# Altium footprint library PcbLib1.PcbLib: 27 footprints (part 2 of 2)
Each footprint in its own frame and in the unit in brackets; x right, y up, seen from the top. Pads: shape width x height; smd on the part's side, far side on the other; paste and mask are expansions set on the pad; w line width, h text height; cw(c..) or ccw(c..) is an arc to the next point about the centre after c.
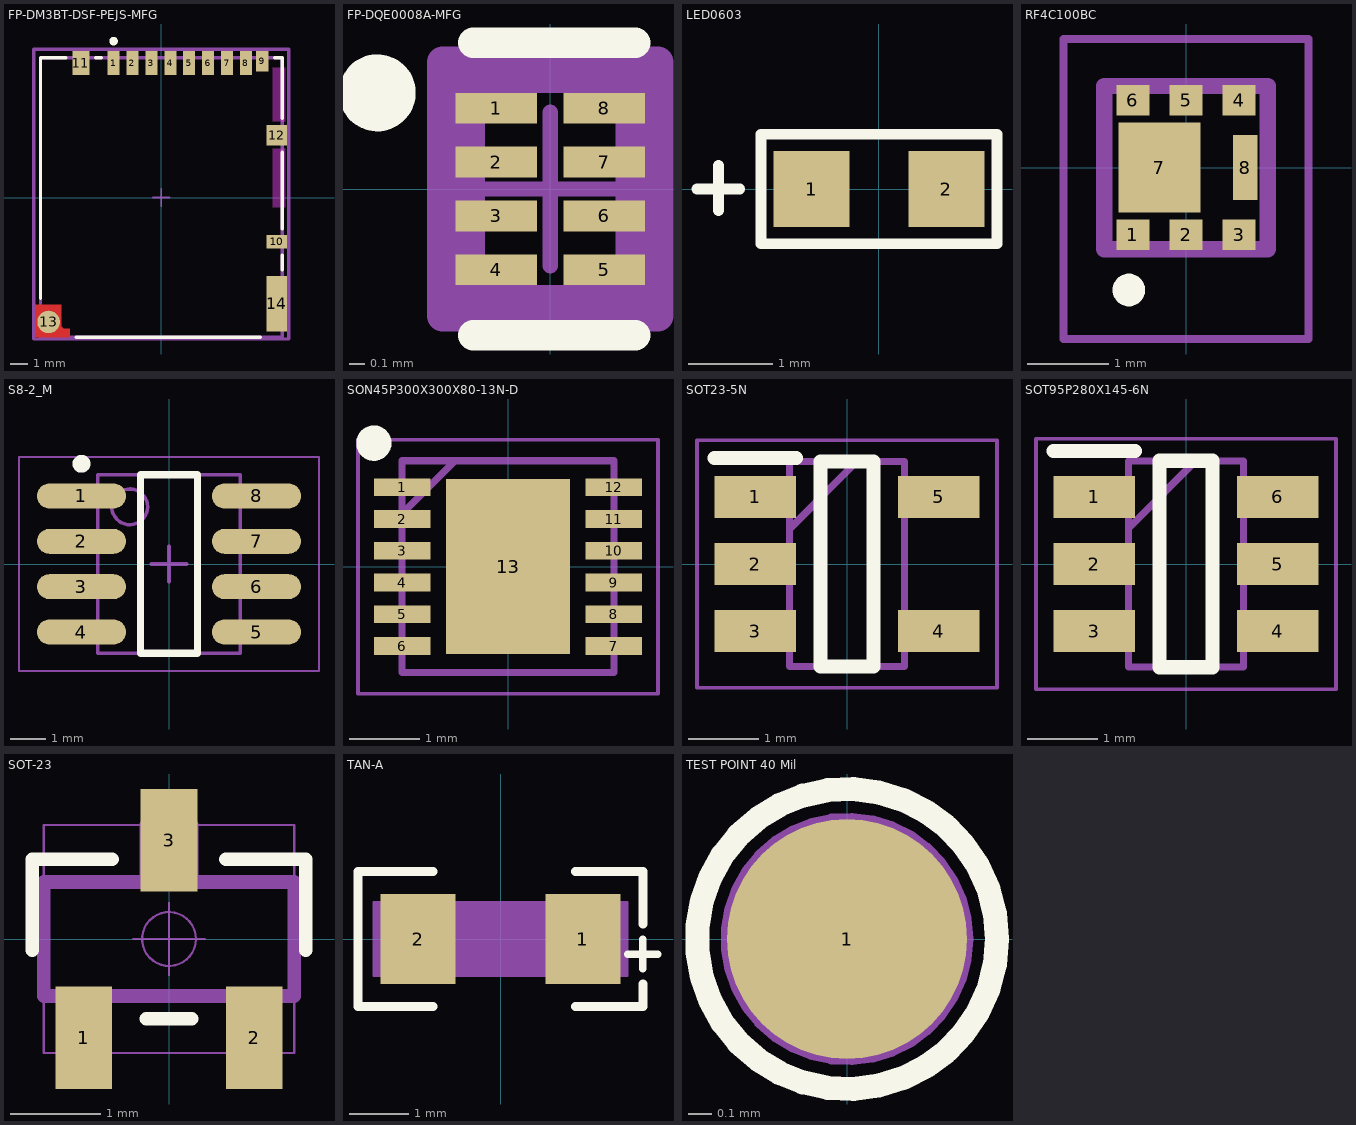
[diagram p1: the footprints below, top view; thin cyan lines are the x and y axes]

## FP-DM3BT-DSF-PEJS-MFG [mm]
height 1.75
pads (14):
  rect 0.7x1.4 smd paste+0 mask+0: 1(-2.775,7.825) 2(-1.675,7.825) 3(-0.575,7.825) 4(0.525,7.825) 5(1.625,7.825) 6(2.725,7.825) 7(3.825,7.825) 8(4.925,7.825)
  rect 0.7x1.2 smd paste+0 mask+0: 9(5.875,7.925)
  rect 1.2x0.8 smd paste+0 mask+0: 10(6.725,-2.575)
  rect 1x1.4 smd paste+0 mask+0: 11(-4.675,7.825)
  rect 1.2x1.2 smd paste+0 mask+0: 12(6.725,3.625)
  round 1.311 smd paste+0 mask+0: 13(-6.553,-7.234)
  rect 1.2x3.2 smd paste+0 mask+0: 14(6.725,-6.175)
Top Layer:
  region: -7.325,-8.125 -7.325,-6.225 -5.825,-6.225 -5.825,-7.475 -5.675,-7.625 -5.325,-7.625 -5.325,-8.125
Top Overlay:
  circle w0.25: c-2.775,9.1 r0.125
  lines w0.2: -7.025,-5.85 -7.025,8.125 -5.55,8.125 ; -4.95,-8.125 5.75,-8.125 ; -3.8,8.125 -3.5,8.125 ; 6.6,8.125 7.025,8.125 7.025,4.6 ; 7.025,-4.2 7.025,-3.35 ; 7.025,-1.8 7.025,2.65
Keep-Out Layer:
  rectangle: 6.475,4.42 7.225,7.577
  rectangle: 6.475,-0.575 7.225,2.845
Top Assembly:
  lines w0.2: -7.425,-8.225 -7.425,8.625 7.425,8.625 7.425,-8.225 -7.425,-8.225
  text ".Designator" at 0.879,1.041 h1
Top Component Center:
  lines w0.1: -0.5,0 0.5,0 ; 0,-0.5 0,0.5
Top Courtyard:
  lines w0.2: -7.425,-8.225 -7.425,8.625 7.425,8.625 7.425,-8.225 -7.425,-8.225
Top 3D Body:
  lines w0.2: -7.025,-8.125 -7.025,8.125 7.025,8.125 7.025,-8.125 -7.025,-8.125
3D body "Conn_HIROSE_DM3BT-DSF-PEJS_eec.STEP": height 0.25, standoff 0, extent -7.425,-8.225 7.425,8.625

## FP-DQE0008A-MFG [mm]
height 1.75
pads (8):
  rect 0.53x0.2 smd paste-1000 mask+0: 1(-0.35,0.525) 2(-0.35,0.175) 3(-0.35,-0.175) 4(-0.35,-0.525) 5(0.35,-0.525) 6(0.35,-0.175) 7(0.35,0.175) 8(0.35,0.525)
Top Overlay:
  circle w0.25: c-1.125,0.625 r0.125
  lines w0.2: -0.5,-0.95 0.55,-0.95 ; -0.5,0.95 0.55,0.95
Top Paste:
  rectangle: -0.6,0.443 -0.07,0.607
  rectangle: -0.6,0.092 -0.07,0.258
  rectangle: -0.6,-0.258 -0.07,-0.092
  rectangle: -0.6,-0.607 -0.07,-0.443
  rectangle: 0.07,-0.607 0.6,-0.443
  rectangle: 0.07,-0.258 0.6,-0.092
  rectangle: 0.07,0.092 0.6,0.258
  rectangle: 0.07,0.443 0.6,0.607
Top Assembly:
  lines w0.2: -0.7,-0.825 0.7,-0.825 0.7,0.825 -0.7,0.825 -0.7,-0.825
Top Component Center:
  lines w0.1: -0.5,0 0.5,0 ; 0,-0.5 0,0.5
Top Courtyard:
  lines w0.2: -0.7,-0.825 0.7,-0.825 0.7,0.825 -0.7,0.825 -0.7,-0.825
Top 3D Body:
  lines w0.2: -0.525,-0.725 0.525,-0.725 0.525,0.725 -0.525,0.725 -0.525,-0.725
3D body "IC_Texas_Instruments_LSF0102DQER_eec.STEP": height 0.25, standoff 0, extent -0.7,-0.825 0.7,0.825

## LED0603 [mm]
pads (2):
  rect 0.9x0.9 smd: 1(-0.8,0) 2(0.8,0)
Top Overlay:
  lines w0.127: -2.159,0 -1.651,0 ; -1.905,-0.254 -1.905,0.279 ; -1.4,-0.65 -1.4,0.65 1.4,0.65 1.4,-0.65 -1.4,-0.65
3D body "LL-S194P_base.step": height 0.4, standoff 0.15, extent -0.776,-0.392 0.824,0.408

## RF4C100BC [mm]
pads (8):
  rect 0.4x0.375 smd: 1(-0.65,-0.825) 2(0,-0.825) 3(0.65,-0.825) 4(0.65,0.825) 5(0,0.825) 6(-0.65,0.825)
  rect 1x1.1 smd: 7(-0.325,0)
  rect 0.3x0.8 smd: 8(0.725,0)
Top Overlay:
  lines w0.2: -0.8,-1.5 cw(c-0.7,-1.5) -0.6,-1.5 cw(c-0.7,-1.5) -0.8,-1.5
Top 3D Body:
  lines w0.2: -1,-1 -1,1 1,1 1,-1 -1,-1
Mechanical 15:
  lines w0.1: -1.5,-2.1 -1.5,1.575 1.5,1.575 1.5,-2.1 -1.5,-2.1
3D body "RF4G060AT.stp": height 0.65, standoff 0, extent -1.05,-1.05 1.05,1.05

## S8-2_M [mm] "SOIC, 8-Leads, Body 4.9x3.9mm, Pitch 1.27mm, IPC Low Density"
height 1.75
pads (8):
  oval 2.5x0.7 smd: 1(-2.45,1.905) 2(-2.45,0.635) 3(-2.45,-0.635) 4(-2.45,-1.905) 5(2.45,-1.905) 6(2.45,-0.635) 7(2.45,0.635) 8(2.45,1.905)
Top Overlay:
  circle w0.25: c-2.45,2.805 r0.125
  lines w0.2: -0.8,-2.5 -0.8,2.5 0.8,2.5 0.8,-2.5 -0.8,-2.5
Assembly Notes:
  lines w0.05: -4.2,-3 -4.2,3 4.2,3 4.2,-3 -4.2,-3
  lines w0.1: -0.5,0 0.5,0 ; 0,-0.5 0,0.5
Top 3D Body:
  circle w0.1: c-1.1,1.6 r0.5
  lines w0.1: -2,-2.5 -2,2.5 2,2.5 2,-2.5 -2,-2.5
3D body: height 1.75, standoff 0.1, extent -2,-2.5 2,2.5

## SON45P300X300X80-13N-D [mm]
pads (13):
  rect 0.8x0.25 smd: 1(-1.5,1.125) 2(-1.5,0.675) 3(-1.5,0.225) 4(-1.5,-0.225) 5(-1.5,-0.675) 6(-1.5,-1.125) 7(1.5,-1.125) 8(1.5,-0.675) 9(1.5,-0.225) 10(1.5,0.225) 11(1.5,0.675) 12(1.5,1.125)
  rect 1.75x2.48 smd: 13(0,0)
Top Overlay:
  circle w0.25: c-1.9,1.75 r0.125
Top 3D Body:
  lines w0.1: -1.5,0.75 -0.75,1.5 ; -1.5,-1.5 1.5,-1.5 1.5,1.5 -1.5,1.5 -1.5,-1.5
Mechanical 15:
  lines w0.05: -2.125,-1.8 2.125,-1.8 2.125,1.8 -2.125,1.8 -2.125,-1.8
3D body "LTC2953CDD-1#PBF.stp": height 0.8, standoff 0, extent -1.55,-1.5 1.55,1.5

## SOT23-5N [mm]
pads (5):
  rect 1.15x0.6 smd: 1(-1.3,0.95) 2(-1.3,0) 3(-1.3,-0.95) 4(1.3,-0.95) 5(1.3,0.95)
Top Overlay:
  lines w0.2: -1.875,1.5 -0.725,1.5 ; -0.375,-1.45 0.375,-1.45 0.375,1.45 -0.375,1.45 -0.375,-1.45
Top 3D Body:
  lines w0.1: -0.812,0.5 0.138,1.45 ; -0.812,-1.45 0.812,-1.45 0.812,1.45 -0.812,1.45 -0.812,-1.45
Mechanical 15:
  lines w0.05: -2.125,-1.75 2.125,-1.75 2.125,1.75 -2.125,1.75 -2.125,-1.75
3D body "STMPS2151STR.stp": height 1.45, standoff 0, extent -1.4,-1.45 1.4,1.45

## SOT95P280X145-6N [mm]
pads (6):
  rect 1.15x0.6 smd: 1(-1.3,0.95) 2(-1.3,0) 3(-1.3,-0.95) 4(1.3,-0.95) 5(1.3,0) 6(1.3,0.95)
Top Overlay:
  lines w0.2: -1.875,1.6 -0.725,1.6 ; -0.375,-1.462 0.375,-1.462 0.375,1.462 -0.375,1.462 -0.375,-1.462
Top 3D Body:
  lines w0.1: -0.812,0.512 0.138,1.462 ; -0.812,-1.462 0.812,-1.462 0.812,1.462 -0.812,1.462 -0.812,-1.462
Mechanical 15:
  lines w0.05: -2.125,-1.775 2.125,-1.775 2.125,1.775 -2.125,1.775 -2.125,-1.775
3D body "USBLC6-4SC6.stp": height 1.45, standoff 0, extent -1.4,-1.462 1.4,1.462

## SOT-23 [mil] "SOT-23"
pads (3):
  rect 25x45 smd: 1(-37.4,-43.31) 2(37.4,-43.31) 3(0,43.31)
Top Overlay:
  lines w6: -60,-5 -60,35 -25,35 ; -10,-35 10,-35 ; 25,35 60,35 60,-5
Top Assembly:
  lines w6: -45,-25 -45,-50 -30,-50 -30,-25 ; -10,25 -10,50 10,50 10,25 ; 30,-25 30,-50 45,-50 45,-25 ; -55,-25 55,-25 55,25 -55,25 -55,-25
Top Component Center:
  circle w1: c0,0 r11.81
  lines w1: -15.75,0 15.75,0 ; 0,-15.75 0,15.75
Mechanical 49:
  text "1" at -31,-43.31 h16
  text "2" at 43.8,-43.31 h16
Mechanical 56:
  lines w1: -55,-50 55,-50 55,50 -55,50 -55,-50

## TAN-A [mil] "TAN-A"
pads (2):
  rect 50x60 smd: 1(55,0) 2(-55,0)
Top Overlay:
  lines w5: 85,-10 105,-10 ; 95,-20 95,0
  lines w6: -45,-45 -95,-45 -95,45 -45,45 ; 50,-45 95,-45 95,-30 ; 50,45 95,45 95,10
Top Assembly:
  lines w1: -85,-25 -85,25 85,25 85,-25 -85,-25
Top 3D Body:
  region: -85,-25 85,-25 85,25 -85,25
Mechanical 49:
  text "2" at -55,-6.4 h16
  text "1" at 55,-6.4 h16
3D body: height 25, standoff 0, extent -85,-25 85,25

## TEST POINT 40 Mil [mil] "MFG_PN:"
height 35.43
pads (1):
  round 40 smd paste-999 mask+0: 1(0,0)
Top Overlay:
  circle w4: c0,0 r25
Mechanical 29:
  circle w2: c0,0 r20.06
  text ".Designator" at -10.16,-1.49 h10